# Altium footprint library 691 254 410 0xx.PcbLib: 2 footprints
Each footprint in its own frame and in the unit in brackets; x right, y up, seen from the top. Pads: shape width x height; smd on the part's side, far side on the other; paste and mask are expansions set on the pad; w line width, h text height; cw(c..) or ccw(c..) is an arc to the next point about the centre after c.
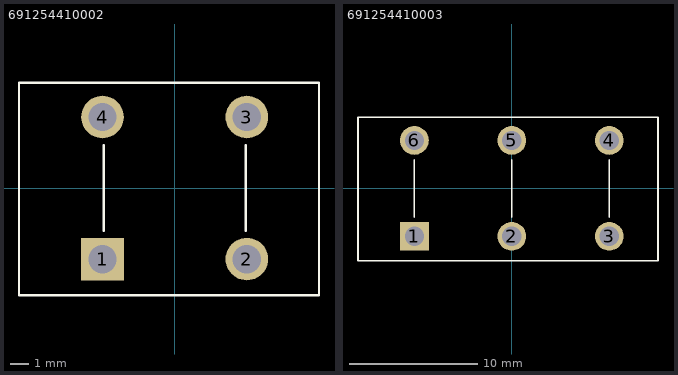
[diagram p0: the footprints below, top view; thin cyan lines are the x and y axes]

## 691254410002 [mm] "Serie 2544 - 7.62 mm _ 2 pins"
height 18
pads (4):
  rect 2.25x2.25 hole 1.5: 1(-3.81,-3.75)
  round 2.25 hole 1.5: 2(3.81,-3.75) 3(3.81,3.75) 4(-3.81,3.75)
Top Overlay:
  lines w0.127: -3.75,-2.25 -3.75,2.25 ; 3.75,-2.25 3.75,2.25 ; -8.22,-5.65 -8.22,5.55 7.62,5.55 7.62,-5.65 -8.22,-5.65
3D body: height 18.1, standoff -3.4, extent -8.2,-5.7 7.64,5.5

## 691254410003 [mm] "Serie 2544 - 7.62 mm _ 3 pins"
height 18
pads (6):
  rect 2.25x2.25 hole 1.5: 1(-7.62,-3.75)
  round 2.25 hole 1.5: 2(0,-3.75) 3(7.62,-3.75) 4(7.62,3.75) 5(0,3.75) 6(-7.62,3.75)
Top Overlay:
  lines w0.127: -7.625,-2.25 -7.625,2.25 ; 0,-2.25 0,2.25 ; 7.625,-2.25 7.625,2.25 ; -12.03,-5.65 -12.03,5.55 11.43,5.55 11.43,-5.65 -12.03,-5.65
3D body: height 18.1, standoff -3.4, extent -12,-5.7 11.46,5.5